# Altium footprint library National_Semiconductor_LM3691TL_3_3_NOPB_0.PcbLib: 1 footprints
Each footprint in its own frame and in the unit in brackets; x right, y up, seen from the top. Pads: shape width x height; smd on the part's side, far side on the other; paste and mask are expansions set on the pad; w line width, h text height; cw(c..) or ccw(c..) is an arc to the next point about the centre after c.
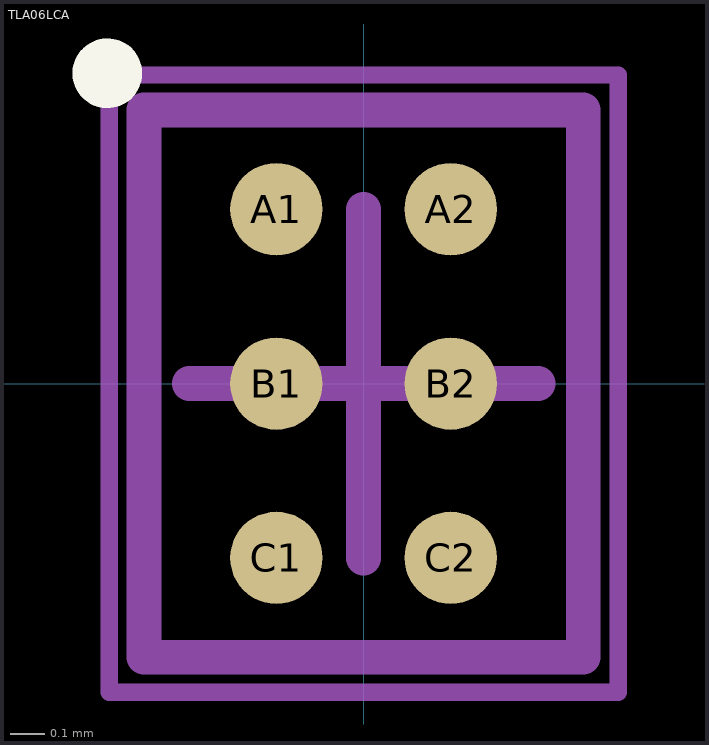
[diagram p0: the footprint, top view; thin cyan lines are the x and y axes]

## TLA06LCA [mm] "Micro SMD, 6-Leads, Body 1.57x1.26mm, Pitch 0.5mm, NSC Recommended"
height 0.68
pads (6):
  round 0.265 smd paste-0.132 mask+0.05: A1(-0.25,0.5) A2(0.25,0.5) B1(-0.25,0) B2(0.25,0) C1(-0.25,-0.5) C2(0.25,-0.5)
Top Overlay:
  circle w0.1: c-0.735,0.89 r0.05
Top Paste:
  circle w0.05: c0.175,-0.425 r0.025
  circle w0.05: c0.325,-0.575 r0.025
  circle w0.05: c0.325,-0.425 r0.025
  circle w0.05: c0.175,-0.575 r0.025
  circle w0.05: c-0.325,-0.425 r0.025
  circle w0.05: c-0.175,-0.575 r0.025
  circle w0.05: c-0.175,-0.425 r0.025
  circle w0.05: c-0.325,-0.575 r0.025
  circle w0.05: c0.175,0.075 r0.025
  circle w0.05: c0.325,-0.075 r0.025
  circle w0.05: c0.325,0.075 r0.025
  circle w0.05: c0.175,-0.075 r0.025
  circle w0.05: c-0.325,0.075 r0.025
  circle w0.05: c-0.175,-0.075 r0.025
  circle w0.05: c-0.175,0.075 r0.025
  circle w0.05: c-0.325,-0.075 r0.025
  circle w0.05: c0.175,0.575 r0.025
  circle w0.05: c0.325,0.425 r0.025
  circle w0.05: c0.325,0.575 r0.025
  circle w0.05: c0.175,0.425 r0.025
  circle w0.05: c-0.325,0.575 r0.025
  circle w0.05: c-0.175,0.425 r0.025
  circle w0.05: c-0.175,0.575 r0.025
  circle w0.05: c-0.325,0.425 r0.025
  region: 0.325,-0.575 0.175,-0.575 0.175,-0.625 0.325,-0.625
  region: 0.325,-0.425 0.325,-0.575 0.375,-0.575 0.375,-0.425
  rectangle: 0.175,-0.425 0.325,-0.375
  region: 0.175,-0.575 0.175,-0.425 0.125,-0.425 0.125,-0.575
  region: 0.175,-0.425 0.175,-0.575 0.325,-0.575 0.325,-0.425
  region: -0.175,-0.575 -0.325,-0.575 -0.325,-0.625 -0.175,-0.625
  region: -0.175,-0.425 -0.175,-0.575 -0.125,-0.575 -0.125,-0.425
  rectangle: -0.325,-0.425 -0.175,-0.375
  region: -0.325,-0.575 -0.325,-0.425 -0.375,-0.425 -0.375,-0.575
  region: -0.325,-0.425 -0.325,-0.575 -0.175,-0.575 -0.175,-0.425
  region: 0.325,-0.075 0.175,-0.075 0.175,-0.125 0.325,-0.125
  region: 0.325,0.075 0.325,-0.075 0.375,-0.075 0.375,0.075
  rectangle: 0.175,0.075 0.325,0.125
  region: 0.175,-0.075 0.175,0.075 0.125,0.075 0.125,-0.075
  region: 0.175,0.075 0.175,-0.075 0.325,-0.075 0.325,0.075
  region: -0.175,-0.075 -0.325,-0.075 -0.325,-0.125 -0.175,-0.125
  region: -0.175,0.075 -0.175,-0.075 -0.125,-0.075 -0.125,0.075
  rectangle: -0.325,0.075 -0.175,0.125
  region: -0.325,-0.075 -0.325,0.075 -0.375,0.075 -0.375,-0.075
  region: -0.325,0.075 -0.325,-0.075 -0.175,-0.075 -0.175,0.075
  region: 0.325,0.425 0.175,0.425 0.175,0.375 0.325,0.375
  region: 0.325,0.575 0.325,0.425 0.375,0.425 0.375,0.575
  rectangle: 0.175,0.575 0.325,0.625
  region: 0.175,0.425 0.175,0.575 0.125,0.575 0.125,0.425
  region: 0.175,0.575 0.175,0.425 0.325,0.425 0.325,0.575
  region: -0.175,0.425 -0.325,0.425 -0.325,0.375 -0.175,0.375
  region: -0.175,0.575 -0.175,0.425 -0.125,0.425 -0.125,0.575
  rectangle: -0.325,0.575 -0.175,0.625
  region: -0.325,0.425 -0.325,0.575 -0.375,0.575 -0.375,0.425
  region: -0.325,0.575 -0.325,0.425 -0.175,0.425 -0.175,0.575
Mechanical 13:
  lines w0.1: -0.63,-0.785 0.63,-0.785 0.63,0.785 -0.63,0.785 -0.63,-0.785
Mechanical 15:
  lines w0.05: -0.73,-0.885 0.73,-0.885 0.73,0.885 -0.73,0.885 -0.73,-0.885
  lines w0.1: -0.5,0 0.5,0 ; 0,-0.5 0,0.5
3D body: height 0.68, standoff 0, extent -0.63,-0.785 0.63,0.785